# EAGLE library part ATTINY1634 (library borkedlabs-micros)
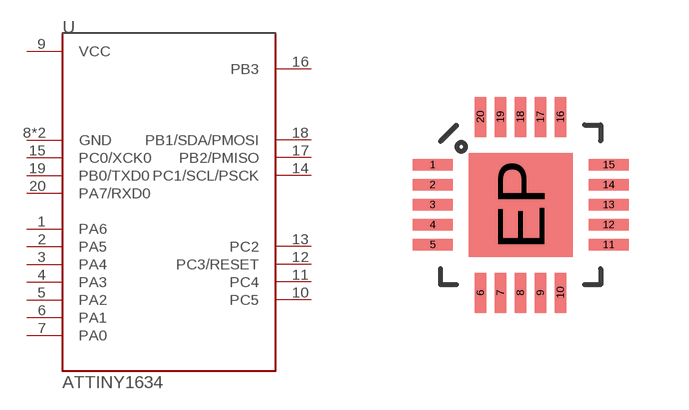
[diagram p5: symbol with the pads of QFN20-4X4; footprint QFN20-4X4]

Designator prefix U

## ATTINY1634  [QFN20-4X4]
1  PA6
2  PA5
3  PA4
4  PA3
5  PA2
6  PA1
7  PA0
8  GND
9  VCC
10  PC5
11  PC4
12  PC3/RESET
13  PC2
14  PC1/SCL/PSCK
15  PC0/XCK0
16  PB3
17  PB2/PMISO
18  PB1/SDA/PMOSI
19  PB0/TXD0
20  PA7/RXD0
EP  GND

## Footprint QFN20-4X4 (pad centres in mm)
smd 1 x 0.285: 1 -2.2,1; 2 -2.2,0.5; 3 -2.2,0; 4 -2.2,-0.5; 5 -2.2,-1; 11 2.2,-1; 12 2.2,-0.5; 13 2.2,0; 14 2.2,0.5; 15 2.2,1
smd 0.285 x 1: 6 -1,-2.2; 7 -0.5,-2.2; 8 0,-2.2; 9 0.5,-2.2; 10 1,-2.2; 16 1,2.2; 17 0.5,2.2; 18 0,2.2; 19 -0.5,2.2; 20 -1,2.2
smd 2.6 x 2.6: EP 0,0